# Altium schematic symbol library I2C_EEPROM.SchLib: 1 symbol
Pins are listed as number, name and electrical type; pins without a type are passive.

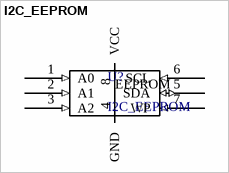
[diagram p0: symbol I2C_EEPROM]

## I2C_EEPROM
designator U?
I2C EEPROM symbol
pins: 1 A0 (in), 2 A1 (in), 3 A2 (in), 4 GND (power), 5 SDA (io), 6 SCL (in), 7 WP (in), 8 VCC (power)
text: EEPROM